# EAGLE library part 74ALS2232A (library fifo)
FIFO
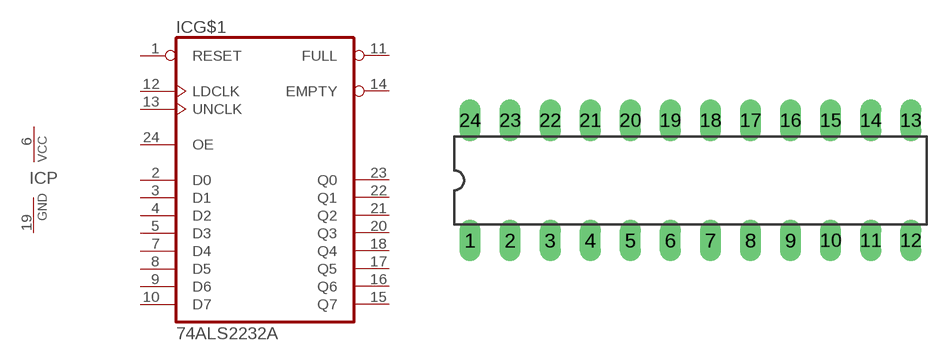
[diagram p14: symbol with the pads of DIL24-3; footprint DIL24-3]

Designator prefix IC; gates G$1=742232A P=PWRN

## 74ALS2232A (OC_FARNELL: unknown; OC_NEWARK: unknown)  [DIL24-3]
1  G$1:RESET  in
2  G$1:D0  in
3  G$1:D1  in
4  G$1:D2  in
5  G$1:D3  in
6  P:VCC  pwr
7  G$1:D4  in
8  G$1:D5  in
9  G$1:D6  in
10  G$1:D7  in
11  G$1:FULL  out
12  G$1:LDCLK  in
13  G$1:UNCLK  in
14  G$1:EMPTY  out
15  G$1:Q7  hiz
16  G$1:Q6  hiz
17  G$1:Q5  hiz
18  G$1:Q4  hiz
19  P:GND  pwr
20  G$1:Q3  hiz
21  G$1:Q2  hiz
22  G$1:Q1  hiz
23  G$1:Q0  hiz
24  G$1:OE  in

## Footprint DIL24-3 (pad centres in mm)
Dual In Line Package 0.3 inch
drill 0.813 long: 1 -13.97,-3.81; 2 -11.43,-3.81; 3 -8.89,-3.81; 4 -6.35,-3.81; 5 -3.81,-3.81; 6 -1.27,-3.81; 7 1.27,-3.81; 8 3.81,-3.81; 9 6.35,-3.81; 10 8.89,-3.81; 11 11.43,-3.81; 12 13.97,-3.81; 13 13.97,3.81; 14 11.43,3.81; 15 8.89,3.81; 16 6.35,3.81; 17 3.81,3.81; 18 1.27,3.81; 19 -1.27,3.81; 20 -3.81,3.81; 21 -6.35,3.81; 22 -8.89,3.81; 23 -11.43,3.81; 24 -13.97,3.81